# Altium footprint library Connectors.PcbLib: 4 footprints
Each footprint in its own frame and in the unit in brackets; x right, y up, seen from the top. Pads: shape width x height; smd on the part's side, far side on the other; paste and mask are expansions set on the pad; w line width, h text height; cw(c..) or ccw(c..) is an arc to the next point about the centre after c.
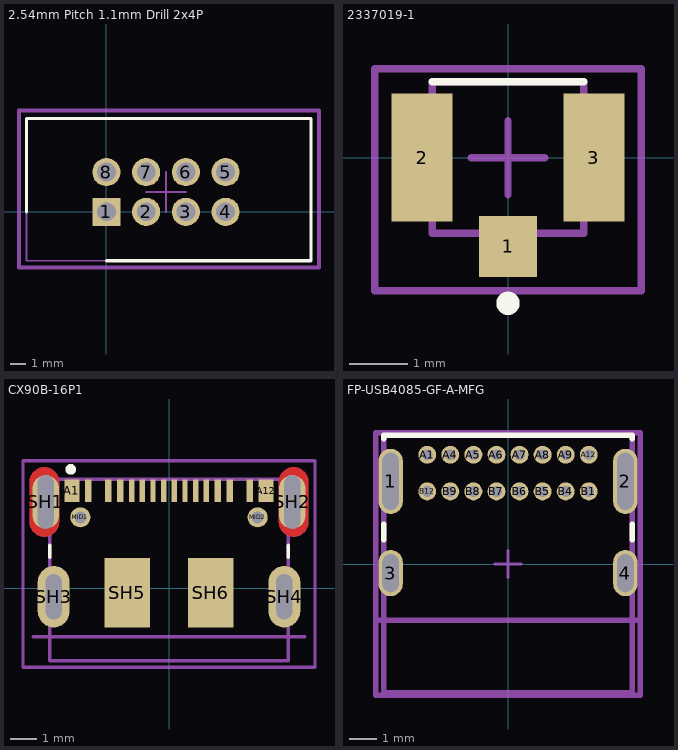
[diagram p0: the footprints below, top view; thin cyan lines are the x and y axes]

## 2.54mm Pitch 1.1mm Drill 2x4P [mm] "MALE SOCKET straight idc box headers PCB CONNECTOR DOUBLE ROW DC3 HEADER 8 pins 2 rows- chinese from aliexpress"
pads (8):
  rect 1.8x1.8 / inner round 1.8 / far side rect 1.8x1.8 hole 1.2: 1(0,0)
  round 1.8 hole 1.2: 2(2.54,0) 3(5.08,0) 4(7.62,0) 5(7.62,2.54) 6(5.08,2.54) 7(2.54,2.54) 8(0,2.54)
Top Overlay:
  lines w0.2: -5.11,0 -5.11,5.97 13.08,5.97 13.08,-3.13 0,-3.13
Top Component Center:
  lines w0.127: 2.54,1.27 3.81,1.27 ; 3.81,0 3.81,1.27 ; 3.81,2.54 3.81,1.27 ; 5.08,1.27 3.81,1.27
Top Component Outline:
  lines w0.1: -5.11,-3.13 13.08,-3.13 13.08,5.97 -5.11,5.97 -5.11,-3.13
Top Courtyard:
  lines w0.254: -5.588,-3.556 13.589,-3.556 13.589,6.477 -5.588,6.477 -5.588,-3.556
3D body "G821EU208AGM07D.stp": height 9.01, standoff -3.19, extent -5.077,-3.127 12.703,5.773

## 2337019-1 [mm]
pads (3):
  rect 1x1.05 smd: 1(0,-1.525)
  rect 1.05x2.2 smd: 2(-1.475,0) 3(1.475,0)
Top Overlay:
  lines w0.127: -1.3,1.3 1.3,1.3
  lines w0.2: -0.1,-2.5 cw(c0,-2.5) 0.1,-2.5 cw(c0,-2.5) -0.1,-2.5
Top Component Center:
  lines w0.127: -0.635,0 0,0 ; 0,-0.635 0,0 ; 0,0.635 0,0 ; 0.635,0 0,0 ; -2.286,-2.286 2.286,-2.286 2.286,1.524 -2.286,1.524 -2.286,-2.286
Top Component Outline:
  lines w0.127: -1.3,-1.3 1.3,-1.3 1.3,1.3 -1.3,1.3 -1.3,-1.3
3D body "2337019-1.stp": height 1.27, standoff 0.02, extent -1.5,-1.55 1.5,1.55

## CX90B-16P1 [mm] "HiRose USB C Connector"
pads (24):
  rect 0.57x0.85 smd mask+0.05: A1(-3.635,3.65) A12(3.635,3.65)
  rect 0.25x0.85 smd mask+0.05: A4(-2.275,3.65) A9(2.275,3.65) B1(3.025,3.65) B4(1.825,3.65) B9(-1.825,3.65) B12(-3.025,3.65)
  rect 0.2x0.85 smd mask+0.05: A5(-1.4,3.65) A6(-0.6,3.65) A7(0.6,3.65) A8(1.4,3.65) B5(1,3.65) B6(0.2,3.65) B7(-0.2,3.65) B8(-1,3.65)
  round 0.75 hole 0.45: MID1(-3.32,2.65) MID2(3.32,2.65)
  oval 1x2 hole 0.6 slot 2 at 90 deg mask+0: SH1(-4.62,3.225) SH2(4.62,3.225)
  oval 1.2x2.3 hole 0.6 slot 1.7 at 90 deg: SH3(-4.32,-0.325) SH4(4.32,-0.325)
  rect 1.71x2.6 smd: SH5(-1.565,-0.175) SH6(1.565,-0.175)
Top Layer:
  region: 4.699,4.524 4.727,4.522 4.756,4.518 4.784,4.513 4.812,4.506 4.84,4.498 4.867,4.488 4.894,4.477 4.92,4.465 4.945,4.451 4.97,4.436 4.993,4.42 5.016,4.402 5.038,4.384 5.059,4.364 5.079,4.343 5.097,4.321 5.115,4.298 5.131,4.275 5.146,4.25 5.16,4.225 5.172,4.199 5.183,4.172 5.193,4.145 5.201,4.117 5.208,4.089 5.213,4.061 5.217,4.032 5.219,4.004 5.22,3.975 5.22,2.475 5.219,2.446 5.217,2.418 5.213,2.389 5.208,2.361 5.201,2.333 5.193,2.305 5.183,2.278 5.172,2.251 5.16,2.225 5.146,2.2 5.131,2.175 5.115,2.152 5.097,2.129 5.079,2.107 5.059,2.086 5.038,2.066 5.016,2.048 4.993,2.03 4.97,2.014 4.945,1.999 4.92,1.985 4.894,1.973 4.867,1.962 4.84,1.952 4.812,1.944 4.784,1.937 4.756,1.932 4.727,1.928 4.699,1.926 4.67,1.925 4.641,1.926 4.613,1.928 4.584,1.932 4.556,1.937 4.528,1.944 4.5,1.952 4.473,1.962 4.446,1.973 4.42,1.985 4.395,1.999 4.37,2.014 4.347,2.03 4.324,2.048 4.302,2.066 4.281,2.086 4.261,2.107 4.243,2.129 4.225,2.152 4.209,2.175 4.194,2.2 4.18,2.225 4.168,2.251 4.157,2.278 4.147,2.305 4.139,2.333 4.132,2.361 4.127,2.389 4.123,2.418 4.121,2.446 4.12,2.475 4.12,3.975 4.121,4.004 4.123,4.032 4.127,4.061 4.132,4.089 4.139,4.117 4.147,4.145 4.157,4.172 4.168,4.199 4.18,4.225 4.194,4.25 4.209,4.275 4.225,4.298 4.243,4.321 4.261,4.343 4.281,4.364 4.302,4.384 4.324,4.402 4.347,4.42 4.37,4.436 4.395,4.451 4.42,4.465 4.446,4.477 4.473,4.488 4.5,4.498 4.528,4.506 4.556,4.513 4.584,4.518 4.613,4.522 4.641,4.524 4.67,4.525
  region: -4.641,4.524 -4.613,4.522 -4.584,4.518 -4.556,4.513 -4.528,4.506 -4.5,4.498 -4.473,4.488 -4.446,4.477 -4.42,4.465 -4.395,4.451 -4.37,4.436 -4.347,4.42 -4.324,4.402 -4.302,4.384 -4.281,4.364 -4.261,4.343 -4.243,4.321 -4.225,4.298 -4.209,4.275 -4.194,4.25 -4.18,4.225 -4.168,4.199 -4.157,4.172 -4.147,4.145 -4.139,4.117 -4.132,4.089 -4.127,4.061 -4.123,4.032 -4.121,4.004 -4.12,3.975 -4.12,2.475 -4.121,2.446 -4.123,2.418 -4.127,2.389 -4.132,2.361 -4.139,2.333 -4.147,2.305 -4.157,2.278 -4.168,2.251 -4.18,2.225 -4.194,2.2 -4.209,2.175 -4.225,2.152 -4.243,2.129 -4.261,2.107 -4.281,2.086 -4.302,2.066 -4.324,2.048 -4.347,2.03 -4.37,2.014 -4.395,1.999 -4.42,1.985 -4.446,1.973 -4.473,1.962 -4.5,1.952 -4.528,1.944 -4.556,1.937 -4.584,1.932 -4.613,1.928 -4.641,1.926 -4.67,1.925 -4.699,1.926 -4.727,1.928 -4.756,1.932 -4.784,1.937 -4.812,1.944 -4.84,1.952 -4.867,1.962 -4.894,1.973 -4.92,1.985 -4.945,1.999 -4.97,2.014 -4.993,2.03 -5.016,2.048 -5.038,2.066 -5.059,2.086 -5.079,2.107 -5.097,2.129 -5.115,2.152 -5.131,2.175 -5.146,2.2 -5.16,2.225 -5.172,2.251 -5.183,2.278 -5.193,2.305 -5.201,2.333 -5.208,2.361 -5.213,2.389 -5.217,2.418 -5.219,2.446 -5.22,2.475 -5.22,3.975 -5.219,4.004 -5.217,4.032 -5.213,4.061 -5.208,4.089 -5.201,4.117 -5.193,4.145 -5.183,4.172 -5.172,4.199 -5.16,4.225 -5.146,4.25 -5.131,4.275 -5.115,4.298 -5.097,4.321 -5.079,4.343 -5.059,4.364 -5.038,4.384 -5.016,4.402 -4.993,4.42 -4.97,4.436 -4.945,4.451 -4.92,4.465 -4.894,4.477 -4.867,4.488 -4.84,4.498 -4.812,4.506 -4.784,4.513 -4.756,4.518 -4.727,4.522 -4.699,4.524 -4.67,4.525
Bottom Layer:
  region: 4.699,4.524 4.727,4.522 4.756,4.518 4.784,4.513 4.812,4.506 4.84,4.498 4.867,4.488 4.894,4.477 4.92,4.465 4.945,4.451 4.97,4.436 4.993,4.42 5.016,4.402 5.038,4.384 5.059,4.364 5.079,4.343 5.097,4.321 5.115,4.298 5.131,4.275 5.146,4.25 5.16,4.225 5.172,4.199 5.183,4.172 5.193,4.145 5.201,4.117 5.208,4.089 5.213,4.061 5.217,4.032 5.219,4.004 5.22,3.975 5.22,2.475 5.219,2.446 5.217,2.418 5.213,2.389 5.208,2.361 5.201,2.333 5.193,2.305 5.183,2.278 5.172,2.251 5.16,2.225 5.146,2.2 5.131,2.175 5.115,2.152 5.097,2.129 5.079,2.107 5.059,2.086 5.038,2.066 5.016,2.048 4.993,2.03 4.97,2.014 4.945,1.999 4.92,1.985 4.894,1.973 4.867,1.962 4.84,1.952 4.812,1.944 4.784,1.937 4.756,1.932 4.727,1.928 4.699,1.926 4.67,1.925 4.641,1.926 4.613,1.928 4.584,1.932 4.556,1.937 4.528,1.944 4.5,1.952 4.473,1.962 4.446,1.973 4.42,1.985 4.395,1.999 4.37,2.014 4.347,2.03 4.324,2.048 4.302,2.066 4.281,2.086 4.261,2.107 4.243,2.129 4.225,2.152 4.209,2.175 4.194,2.2 4.18,2.225 4.168,2.251 4.157,2.278 4.147,2.305 4.139,2.333 4.132,2.361 4.127,2.389 4.123,2.418 4.121,2.446 4.12,2.475 4.12,3.975 4.121,4.004 4.123,4.032 4.127,4.061 4.132,4.089 4.139,4.117 4.147,4.145 4.157,4.172 4.168,4.199 4.18,4.225 4.194,4.25 4.209,4.275 4.225,4.298 4.243,4.321 4.261,4.343 4.281,4.364 4.302,4.384 4.324,4.402 4.347,4.42 4.37,4.436 4.395,4.451 4.42,4.465 4.446,4.477 4.473,4.488 4.5,4.498 4.528,4.506 4.556,4.513 4.584,4.518 4.613,4.522 4.641,4.524 4.67,4.525
  region: -4.641,4.524 -4.613,4.522 -4.584,4.518 -4.556,4.513 -4.528,4.506 -4.5,4.498 -4.473,4.488 -4.446,4.477 -4.42,4.465 -4.395,4.451 -4.37,4.436 -4.347,4.42 -4.324,4.402 -4.302,4.384 -4.281,4.364 -4.261,4.343 -4.243,4.321 -4.225,4.298 -4.209,4.275 -4.194,4.25 -4.18,4.225 -4.168,4.199 -4.157,4.172 -4.147,4.145 -4.139,4.117 -4.132,4.089 -4.127,4.061 -4.123,4.032 -4.121,4.004 -4.12,3.975 -4.12,2.475 -4.121,2.446 -4.123,2.418 -4.127,2.389 -4.132,2.361 -4.139,2.333 -4.147,2.305 -4.157,2.278 -4.168,2.251 -4.18,2.225 -4.194,2.2 -4.209,2.175 -4.225,2.152 -4.243,2.129 -4.261,2.107 -4.281,2.086 -4.302,2.066 -4.324,2.048 -4.347,2.03 -4.37,2.014 -4.395,1.999 -4.42,1.985 -4.446,1.973 -4.473,1.962 -4.5,1.952 -4.528,1.944 -4.556,1.937 -4.584,1.932 -4.613,1.928 -4.641,1.926 -4.67,1.925 -4.699,1.926 -4.727,1.928 -4.756,1.932 -4.784,1.937 -4.812,1.944 -4.84,1.952 -4.867,1.962 -4.894,1.973 -4.92,1.985 -4.945,1.999 -4.97,2.014 -4.993,2.03 -5.016,2.048 -5.038,2.066 -5.059,2.086 -5.079,2.107 -5.097,2.129 -5.115,2.152 -5.131,2.175 -5.146,2.2 -5.16,2.225 -5.172,2.251 -5.183,2.278 -5.193,2.305 -5.201,2.333 -5.208,2.361 -5.213,2.389 -5.217,2.418 -5.219,2.446 -5.22,2.475 -5.22,3.975 -5.219,4.004 -5.217,4.032 -5.213,4.061 -5.208,4.089 -5.201,4.117 -5.193,4.145 -5.183,4.172 -5.172,4.199 -5.16,4.225 -5.146,4.25 -5.131,4.275 -5.115,4.298 -5.097,4.321 -5.079,4.343 -5.059,4.364 -5.038,4.384 -5.016,4.402 -4.993,4.42 -4.97,4.436 -4.945,4.451 -4.92,4.465 -4.894,4.477 -4.867,4.488 -4.84,4.498 -4.812,4.506 -4.784,4.513 -4.756,4.518 -4.727,4.522 -4.699,4.524 -4.67,4.525
Top Overlay:
  circle w0.2: c-3.683,4.445 r0.1
  lines w0.127: -4.47,1.145 -4.47,1.605 ; 4.47,1.145 4.47,1.605
Top Solder:
  drawing of 2 lines, arcs and shapes, not listed
Bottom Solder:
  drawing of 2 lines, arcs and shapes, not listed
Top Component Outline:
  lines w0.127: -5.08,-1.825 5.08,-1.825 ; -4.47,-2.725 4.47,-2.725 4.47,4.075 -4.47,4.075 -4.47,-1.825 -4.47,-2.725
  text "PCB EDGE^" at -1.27,-2.413 h0.38
Top Courtyard:
  lines w0.127: -5.47,-2.975 5.47,-2.975 5.47,4.775 -5.47,4.775 -5.47,-2.975
3D body "step_temp.STEP": height 3.17, standoff -0.45, extent -4.77,-2.73 4.77,4.07

## FP-USB4085-GF-A-MFG [mm] "USB C 2.0 Connector"
pads (20):
  rrect100% 0.9x2.4 hole 0.6 slot 2.1 at 90 deg paste-2539.97 mask+0: 1(-4.325,3.045) 2(4.325,3.045)
  rrect100% 0.9x1.7 hole 0.6 slot 1.4 at 90 deg paste-2539.97 mask+0: 3(-4.325,-0.335) 4(4.325,-0.335)
  round 0.66 hole 0.4 paste-2539.97 mask+0: A1(-2.975,4.025) A4(-2.125,4.025) A5(-1.275,4.025) A6(-0.425,4.025) A7(0.425,4.025) A8(1.275,4.025) A9(2.125,4.025) A12(2.975,4.025) B1(2.975,2.675) B4(2.125,2.675) B5(1.275,2.675) B6(0.425,2.675) B7(-0.425,2.675) B8(-1.275,2.675) B9(-2.125,2.675) B12(-2.975,2.675)
Top Overlay:
  lines w0.2: -4.575,0.89 -4.575,1.47 ; -4.575,4.62 -4.575,4.735 4.575,4.735 4.575,4.62 ; 4.575,0.89 4.575,1.47
Top Component Outline:
  lines w0.2: -4.875,-4.835 -4.875,4.835 4.875,4.835 4.875,-4.835 -4.875,-4.835
Top Courtyard:
  lines w0.2: -4.875,-4.835 -4.875,4.835 4.875,4.835 4.875,-4.835 -4.875,-4.835
Board:
  lines w0.1: -0.5,0 0.5,0 ; 0,-0.5 0,0.5
Top Assembly:
  lines w0.2: -4.875,-2.075 4.875,-2.075 ; -4.575,-4.735 4.575,-4.735 4.575,4.735 -4.575,4.735 -4.575,-4.735
3D body "Conn_GCT_USB4085-GF-A_eec.STEP": height 0.25, standoff 0, extent -4.875,-4.835 4.875,4.835